# Altium footprint library COMMON-SMD.PcbLib: 31 footprints (part 2 of 2)
Each footprint in its own frame and in the unit in brackets; x right, y up, seen from the top. Pads: shape width x height; smd on the part's side, far side on the other; paste and mask are expansions set on the pad; w line width, h text height; cw(c..) or ccw(c..) is an arc to the next point about the centre after c.
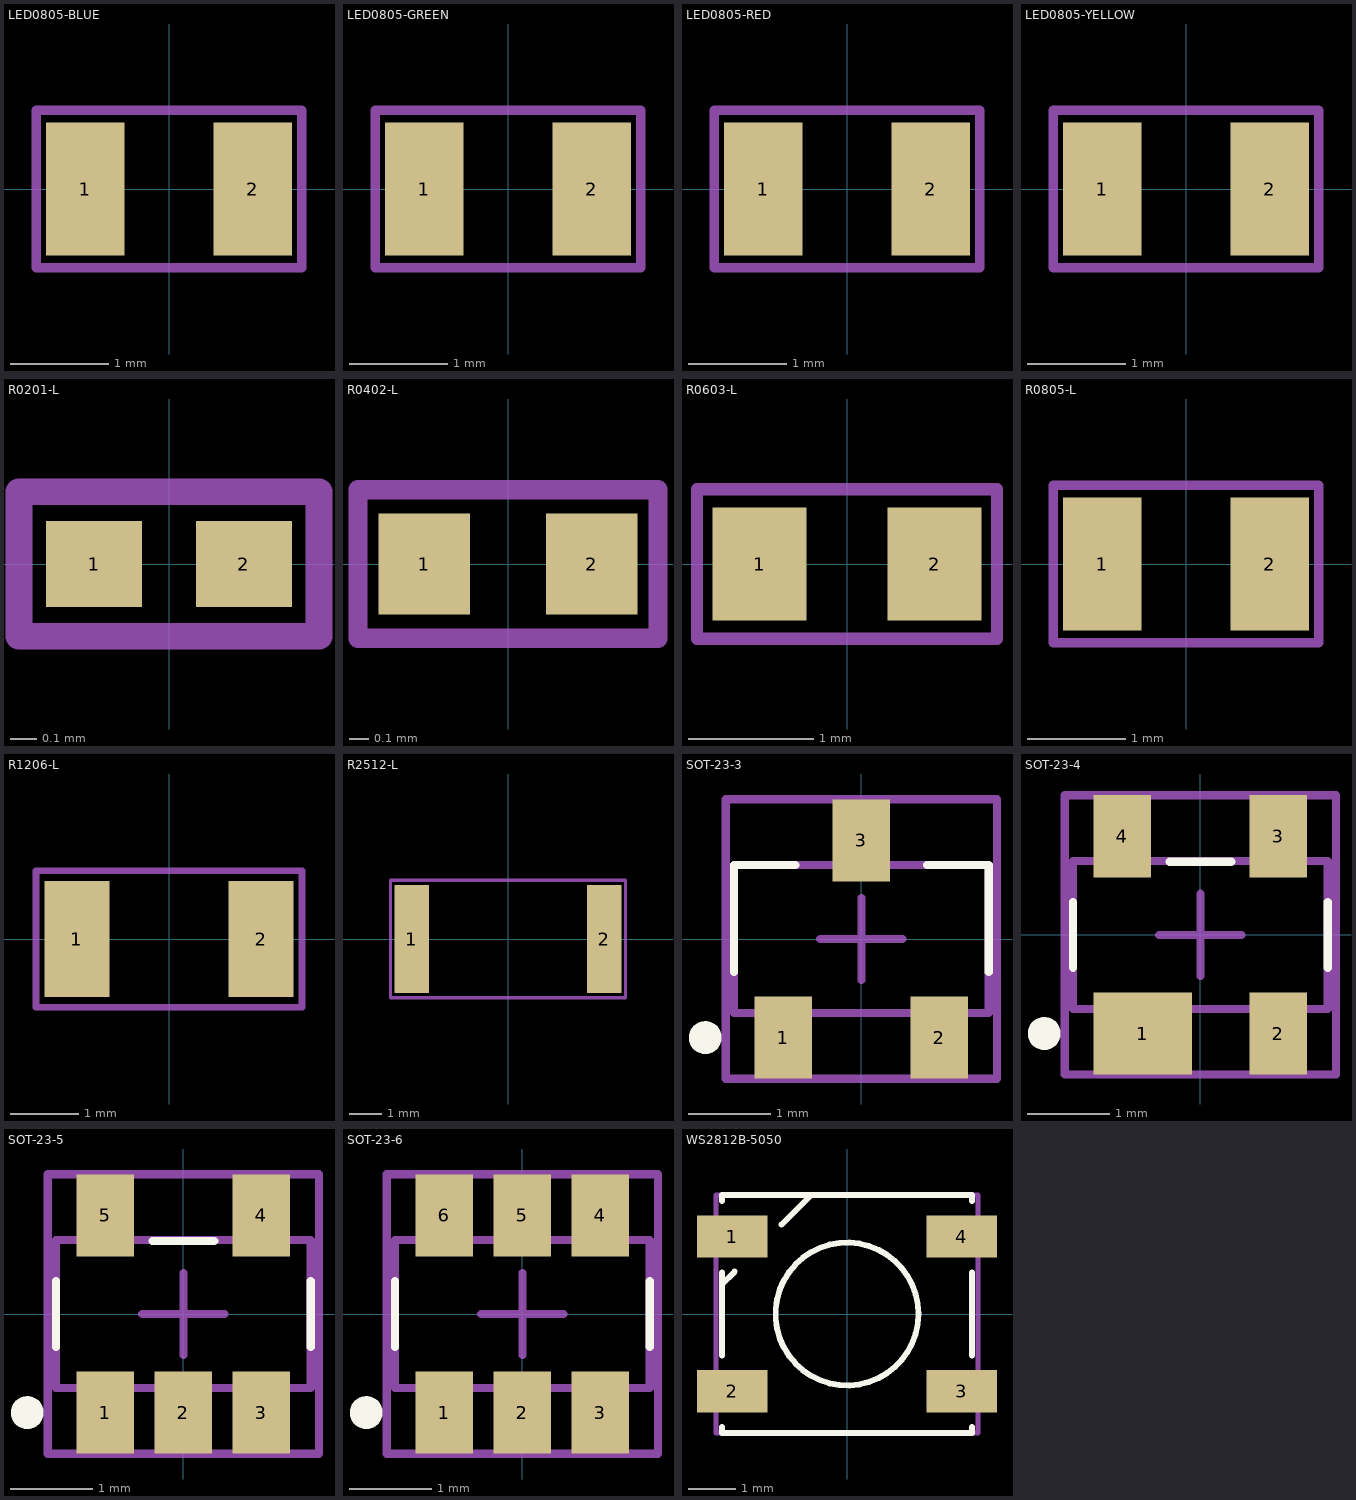
[diagram p1: the footprints below, top view; thin cyan lines are the x and y axes]

## LED0805-BLUE [mm]
pads (2):
  rect 0.8x1.35 smd: 1(-0.85,0) 2(0.85,0)
Mechanical 15 (Mech15):
  lines w0.1: -1.35,-0.8 1.35,-0.8 1.35,0.8 -1.35,0.8 -1.35,-0.8
3D body "0805 Blue.step": height 0.73, standoff 0, extent -1,-0.625 1,0.625
3D body "0805 Lens.step": height 0.78, standoff 0.28, extent -0.55,-0.625 0.55,0.625

## LED0805-GREEN [mm]
pads (2):
  rect 0.8x1.35 smd: 1(-0.85,0) 2(0.85,0)
Mechanical 15 (Mech15):
  lines w0.1: -1.35,-0.8 1.35,-0.8 1.35,0.8 -1.35,0.8 -1.35,-0.8
3D body "0805 Green.step": height 0.73, standoff 0, extent -1,-0.625 1,0.625
3D body "0805 Lens.step": height 0.78, standoff 0.28, extent -0.55,-0.625 0.55,0.625

## LED0805-RED [mm]
pads (2):
  rect 0.8x1.35 smd: 1(-0.85,0) 2(0.85,0)
Mechanical 15 (Mech15):
  lines w0.1: -1.35,-0.8 -1.35,0.8 1.35,0.8 1.35,-0.8 -1.35,-0.8
3D body "0805 Lens.step": height 0.78, standoff 0.28, extent -0.55,-0.625 0.55,0.625
3D body "0805 Red.step": height 0.73, standoff 0, extent -1,-0.625 1,0.625

## LED0805-YELLOW [mm]
pads (2):
  rect 0.8x1.35 smd: 1(-0.85,0) 2(0.85,0)
Mechanical 15 (Mech15):
  lines w0.1: -1.35,-0.8 -1.35,0.8 1.35,0.8 1.35,-0.8 -1.35,-0.8
3D body "0805 Lens.step": height 0.78, standoff 0.28, extent -0.55,-0.625 0.55,0.625
3D body "0805 Yellow.step": height 0.73, standoff 0, extent -1,-0.625 1,0.625

## R0201-L [mm]
pads (2):
  rect 0.36x0.32 smd: 1(-0.28,0) 2(0.28,0)
Mechanical 15 (Mech15):
  lines w0.1: -0.56,-0.27 -0.56,0.27 0.56,0.27 0.56,-0.27 -0.56,-0.27
3D body "RES0201.stp": height 0.3, standoff 0, extent -0.3,-0.15 0.3,0.15

## R0402-L [mm]
pads (2):
  rect 0.47x0.52 smd: 1(-0.43,0) 2(0.43,0)
Mechanical 15 (Mech15):
  lines w0.1: -0.77,-0.38 0.77,-0.38 0.77,0.38 -0.77,0.38 -0.77,-0.38
3D body "RES0402.stp": height 0.3, standoff 0, extent -0.5,-0.25 0.5,0.25

## R0603-L [mm]
pads (2):
  rect 0.75x0.9 smd: 1(-0.7,0) 2(0.7,0)
Mechanical 15 (Mech15):
  lines w0.1: -1.2,-0.6 1.2,-0.6 1.2,0.6 -1.2,0.6 -1.2,-0.6
3D body "RES0603.stp": height 0.45, standoff 0, extent -0.8,-0.4 0.8,0.4

## R0805-L [mm]
pads (2):
  rect 0.8x1.35 smd: 1(-0.85,0) 2(0.85,0)
Mechanical 15 (Mech15):
  lines w0.1: -1.35,-0.8 1.35,-0.8 1.35,0.8 -1.35,0.8 -1.35,-0.8
3D body "RES0805.stp": height 0.5, standoff 0, extent -1,-0.63 1,0.62

## R1206-L [mm]
pads (2):
  rect 0.95x1.7 smd: 1(-1.35,0) 2(1.35,0)
Mechanical 15 (Mech15):
  lines w0.1: -1.95,-1 1.95,-1 1.95,1 -1.95,1 -1.95,-1
3D body "RES1206.stp": height 0.55, standoff 0, extent -1.55,-0.772 1.55,0.78

## R2512-L [mm]
pads (2):
  rect 1.05x3.3 smd: 1(-2.95,0) 2(2.95,0)
Mechanical 15 (Mech15):
  lines w0.1: -3.6,-1.8 -3.6,1.8 3.6,1.8 3.6,-1.8 -3.6,-1.8
3D body "RES2512.stp": height 0.55, standoff 0, extent -3.15,-1.55 3.15,1.55

## SOT-23-3 [mm]
pads (3):
  rect 0.7x1 smd: 1(-0.95,-1.2) 2(0.95,-1.2) 3(0,1.2)
Top Overlay:
  circle w0.2: c-1.9,-1.2 r0.1
  lines w0.1: -1.55,-0.4 -1.55,0.9 -0.8,0.9 ; 0.8,0.9 1.55,0.9 1.55,-0.4
Mechanical 13:
  lines w0.1: -1.55,-0.9 -1.55,0.9 1.55,0.9 1.55,-0.9 -1.55,-0.9
Mechanical 15 (Mech15):
  lines w0.1: -0.5,0 0.5,0 ; 0,-0.5 0,0.5 ; -1.65,-1.7 -1.65,1.7 1.65,1.7 1.65,-1.7 -1.65,-1.7
3D body "SOT23-3.stp": height 1.2, standoff 0.02, extent -1.5,-1.418 1.5,1.418

## SOT-23-4 [mm]
pads (4):
  rect 1.2x1 smd: 1(-0.7,-1.2)
  rect 0.7x1 smd: 2(0.95,-1.2) 3(0.95,1.2) 4(-0.95,1.2)
Top Overlay:
  circle w0.2: c-1.9,-1.2 r0.1
  lines w0.1: -1.55,-0.4 -1.55,0.4 ; -0.375,0.889 0.375,0.889 ; 1.55,-0.4 1.55,0.4
Mechanical 13:
  lines w0.1: -1.55,-0.9 1.55,-0.9 1.55,0.9 -1.55,0.9 -1.55,-0.9
Mechanical 15 (Mech15):
  lines w0.1: -0.5,0 0.5,0 ; 0,-0.5 0,0.5 ; -1.65,-1.7 1.65,-1.7 1.65,1.7 -1.65,1.7 -1.65,-1.7
3D body "SOT23-4.stp": height 1.2, standoff 0.02, extent -1.5,-1.418 1.5,1.418

## SOT-23-5 [mm]
pads (5):
  rect 0.7x1 smd: 1(-0.95,-1.2) 2(0,-1.2) 3(0.95,-1.2) 4(0.95,1.2) 5(-0.95,1.2)
Top Overlay:
  circle w0.2: c-1.9,-1.2 r0.1
  lines w0.1: -1.55,-0.4 -1.55,0.4 ; -0.375,0.889 0.375,0.889 ; 1.55,-0.4 1.55,0.4
Mechanical 13:
  lines w0.1: -1.55,-0.9 1.55,-0.9 1.55,0.9 -1.55,0.9 -1.55,-0.9
Mechanical 15 (Mech15):
  lines w0.1: -0.5,0 0.5,0 ; 0,-0.5 0,0.5 ; -1.65,-1.7 1.65,-1.7 1.65,1.7 -1.65,1.7 -1.65,-1.7
3D body "SOT23-5.stp": height 1.2, standoff 0.02, extent -1.5,-1.418 1.5,1.418

## SOT-23-6 [mm]
pads (6):
  rect 0.7x1 smd: 1(-0.95,-1.2) 2(0,-1.2) 3(0.95,-1.2) 4(0.95,1.2) 5(0,1.2) 6(-0.95,1.2)
Top Overlay:
  circle w0.2: c-1.9,-1.2 r0.1
  lines w0.1: -1.55,-0.4 -1.55,0.4 ; 1.55,-0.4 1.55,0.4
Mechanical 13:
  lines w0.1: -1.55,-0.9 1.55,-0.9 1.55,0.9 -1.55,0.9 -1.55,-0.9
Mechanical 15 (Mech15):
  lines w0.1: -0.5,0 0.5,0 ; 0,-0.5 0,0.5 ; -1.65,-1.7 1.65,-1.7 1.65,1.7 -1.65,1.7 -1.65,-1.7
3D body "SOT23-6.stp": height 1.2, standoff 0.02, extent -1.5,-1.418 1.5,1.418

## WS2812B-5050 [mm]
pads (4):
  rect 1.5x0.9 smd: 1(-2.45,1.65) 2(-2.45,-1.65) 3(2.45,-1.65) 4(2.45,1.65)
Top Overlay:
  circle w0.127: c0,0 r1.524
  lines w0.127: -2.667,-2.413 -2.667,-2.54 2.667,-2.54 2.667,-2.413 ; -2.667,-0.889 -2.667,0.889 ; -2.667,0.635 -2.398,0.904 ; -2.667,2.413 -2.667,2.54 2.667,2.54 2.667,2.413 ; -1.397,1.905 -0.762,2.54 ; 2.667,-0.889 2.667,0.889
Mechanical 15 (Mech15):
  lines w0.1: -2.794,-2.54 2.794,-2.54 2.794,2.54 -2.794,2.54 -2.794,-2.54
3D body "WS2812_RGB_LED_updated.stp": height 1.5, standoff -0.2, extent -2.675,-2.475 2.675,2.475